# Altium footprint library DM3CS-SF.PcbLib: 1 footprints
Each footprint in its own frame and in the unit in brackets; x right, y up, seen from the top. Pads: shape width x height; smd on the part's side, far side on the other; paste and mask are expansions set on the pad; w line width, h text height; cw(c..) or ccw(c..) is an arc to the next point about the centre after c.
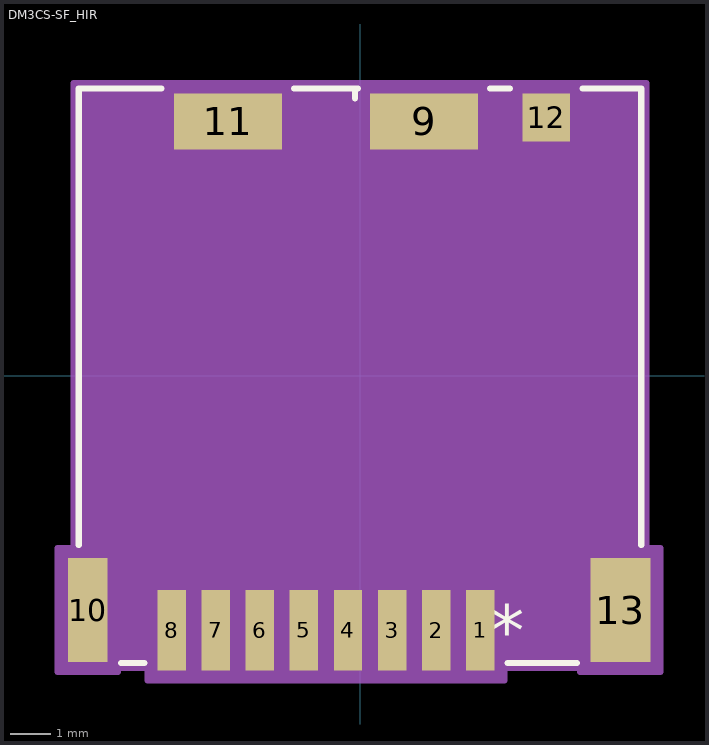
[diagram p0: the footprint, top view; thin cyan lines are the x and y axes]

## DM3CS-SF_HIR [mil]
pads (13):
  rect 28x79 smd paste+0 mask+0: 1(118.11,-250.06) 2(74.8,-250.06) 3(31.5,-250.06) 4(-11.81,-250.06) 5(-55.12,-250.06) 6(-98.43,-250.06) 7(-141.73,-250.06) 8(-185.04,-250.06)
  rect 106x55 smd paste+0 mask+0: 9(62.99,249.94) 11(-129.92,249.94)
  rect 39x102 smd paste+0 mask+0: 10(-267.72,-230.37)
  rect 47x47 smd paste+0 mask+0: 12(183.07,253.88)
  rect 59x102 smd paste-51 mask-51: 13(255.91,-230.37)
Top Overlay:
  lines w6: -276.5,-166.27 -276.5,282.5 -195,282.5 ; -235.16,-282.5 -212.14,-282.5 ; -64.84,282.5 -2.09,282.5 ; -5,272.5 -5,282.5 ; 128.08,282.5 147.51,282.5 ; 145.21,-282.5 213.35,-282.5 ; 218.63,282.5 276.5,282.5 276.5,-166.27
  text "*" at 127.5,-275 h50
Mechanical 13:
  lines w1: 0,277.5 0,277.5 ; 0,277.5 0,277.5 ; 0,277.5 0,277.5 ; 0,277.5 0,277.5 ; -271.5,-277.5 271.5,-277.5 271.5,277.5 -271.5,277.5 -271.5,-277.5
  text "*" at 127.5,-275 h50
Mechanical 15:
  region: -297.22,-169.37 -297.22,-291.37 -238.22,-291.37 -238.22,-287.5 -209.04,-287.5 -209.04,-299.56 142.11,-299.56 142.11,-287.5 216.41,-287.5 216.41,-291.37 295.41,-291.37 295.41,-169.37 281.5,-169.37 281.5,287.5 -281.5,287.5 -281.5,-169.37
  lines w6: -297.22,-291.37 -297.22,-169.37 -281.5,-169.37 -281.5,287.5 281.5,287.5 281.5,-169.37 295.41,-169.37 295.41,-291.37 216.41,-291.37 216.41,-287.5 142.11,-287.5 142.11,-299.56 -209.04,-299.56 -209.04,-287.5 -238.22,-287.5 -238.22,-291.37 -297.22,-291.37